# Altium schematic symbol library Schlib1.SchLib: 2 symbols
Pins are listed as number, name and electrical type; pins without a type are passive.

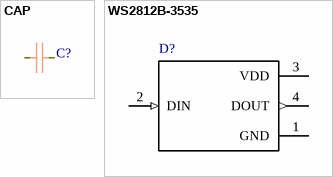
[diagram p0: symbols CAP to WS2812B-3535]

## CAP
designator C?, comment CAP0603_100nF_X7R  (value not drawn)
CAP0603 100nF X5R/X7R 25V; MF: Samsung Electro-Mechanics; MP: CL10B104KA8NNNC; LCSC Part #: C1590; Footprint: 0603
footprint C0603
footprint C0805
footprint C1206
pins: 1 N/A, 2 N/A

## WS2812B-3535
designator D?, comment WS2812B-Mini  (value not drawn)
WS2812B-Mini 35x35mm; MF: Worldsemi; LCSC Part #: C114583; Footprint: SMD,3.5x3.5mm; MP: WS2812B-Mini
footprint WS2812B-3535
pins: 1 GND (power), 2 DIN (in), 3 VDD (power), 4 DOUT (out)